# Altium footprint library IDC_100_2x4_RA.PcbLib: 1 footprints
Each footprint in its own frame and in the unit in brackets; x right, y up, seen from the top. Pads: shape width x height; smd on the part's side, far side on the other; paste and mask are expansions set on the pad; w line width, h text height; cw(c..) or ccw(c..) is an arc to the next point about the centre after c.
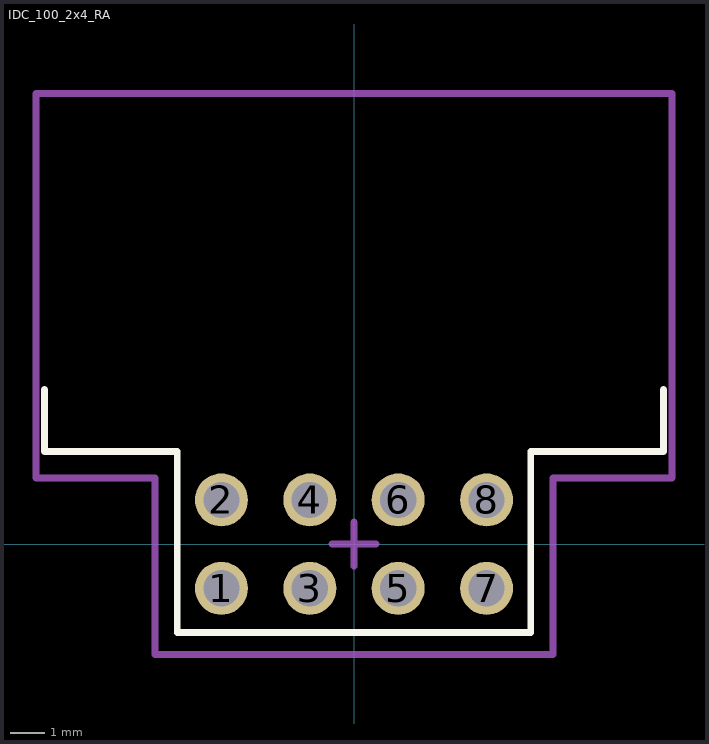
[diagram p0: the footprint, top view; thin cyan lines are the x and y axes]

## IDC_100_2x4_RA [mil]
pads (8):
  round 60 hole 41: 1(-150,-50) 2(-150,50) 3(-50,-50) 4(-50,50) 5(50,-50) 6(50,50) 7(150,-50) 8(150,50)
Top Overlay:
  lines w7.87: -350,175 -350,105 -200,105 -200,-100 200,-100 200,105 350,105 350,175
Mechanical 15:
  lines w7.87: -25,0 25,0 ; 0,-25 0,25 ; -360,75 -225,75 -225,-125 225,-125 225,75 360,75 360,510 -360,510 -360,75
3D body "75867132lf.stp": height 366.19, standoff -119.66, extent -341.93,-64 341.93,486